# Altium footprint library 5557 connector.PcbLib: 1 footprints
Each footprint in its own frame and in the unit in brackets; x right, y up, seen from the top. Pads: shape width x height; smd on the part's side, far side on the other; paste and mask are expansions set on the pad; w line width, h text height; cw(c..) or ccw(c..) is an arc to the next point about the centre after c.
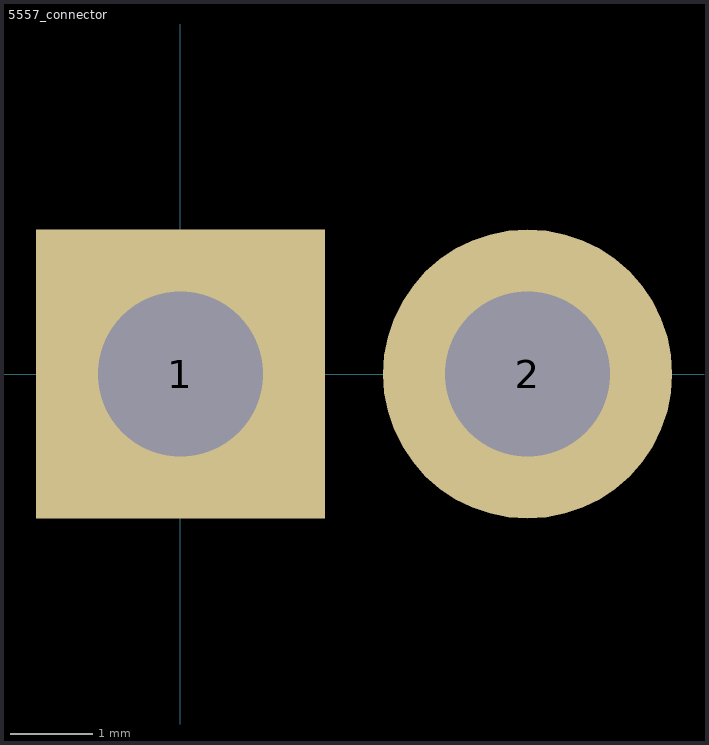
[diagram p0: the footprint, top view; thin cyan lines are the x and y axes]

## 5557_connector [mm]
pads (2):
  rect 3.5x3.5 hole 2: 1(0,0)
  round 3.5 hole 2: 2(4.2,0)